# EAGLE library part JMP/6P/DIP (library audioint)
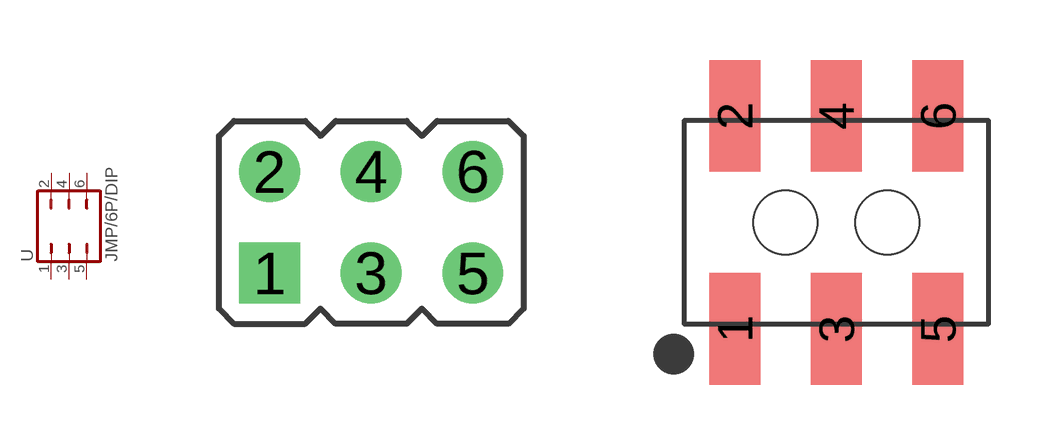
[diagram p7: symbol with the pads of JMP/6P/DIP; footprints JMP/6P/DIP, JMP/6P/DIP/SMT/PEG]

Designator prefix -

## JMP/6P/DIP  [JMP/6P/DIP]
1  1  pas
2  2  pas
3  3  pas
4  4  pas
5  5  pas
6  6  pas

## JMP/6P/DIPSMT/PEG  [JMP/6P/DIP/SMT/PEG]
Pads as for JMP/6P/DIP

## Footprint JMP/6P/DIP (pad centres in mm)
drill 0.914 pad 1.524 square: 1 -2.54,-1.27
drill 0.914 pad 1.524 round: 2 -2.54,1.27; 3 0,-1.27; 4 0,1.27; 5 2.54,-1.27; 6 2.54,1.27

## Footprint JMP/6P/DIP/SMT/PEG (pad centres in mm)
smd 1.27 x 2.794: 1 -2.54,-2.667; 2 -2.54,2.667; 3 0,-2.667; 4 0,2.667; 5 2.54,-2.667; 6 2.54,2.667
hole 1.6 at -1.27,0
hole 1.6 at 1.27,0